# EAGLE library part QM_A35T (library sjg-fpga)
QMTech Artix 35T module with 256MB of DDR3 and all PSU
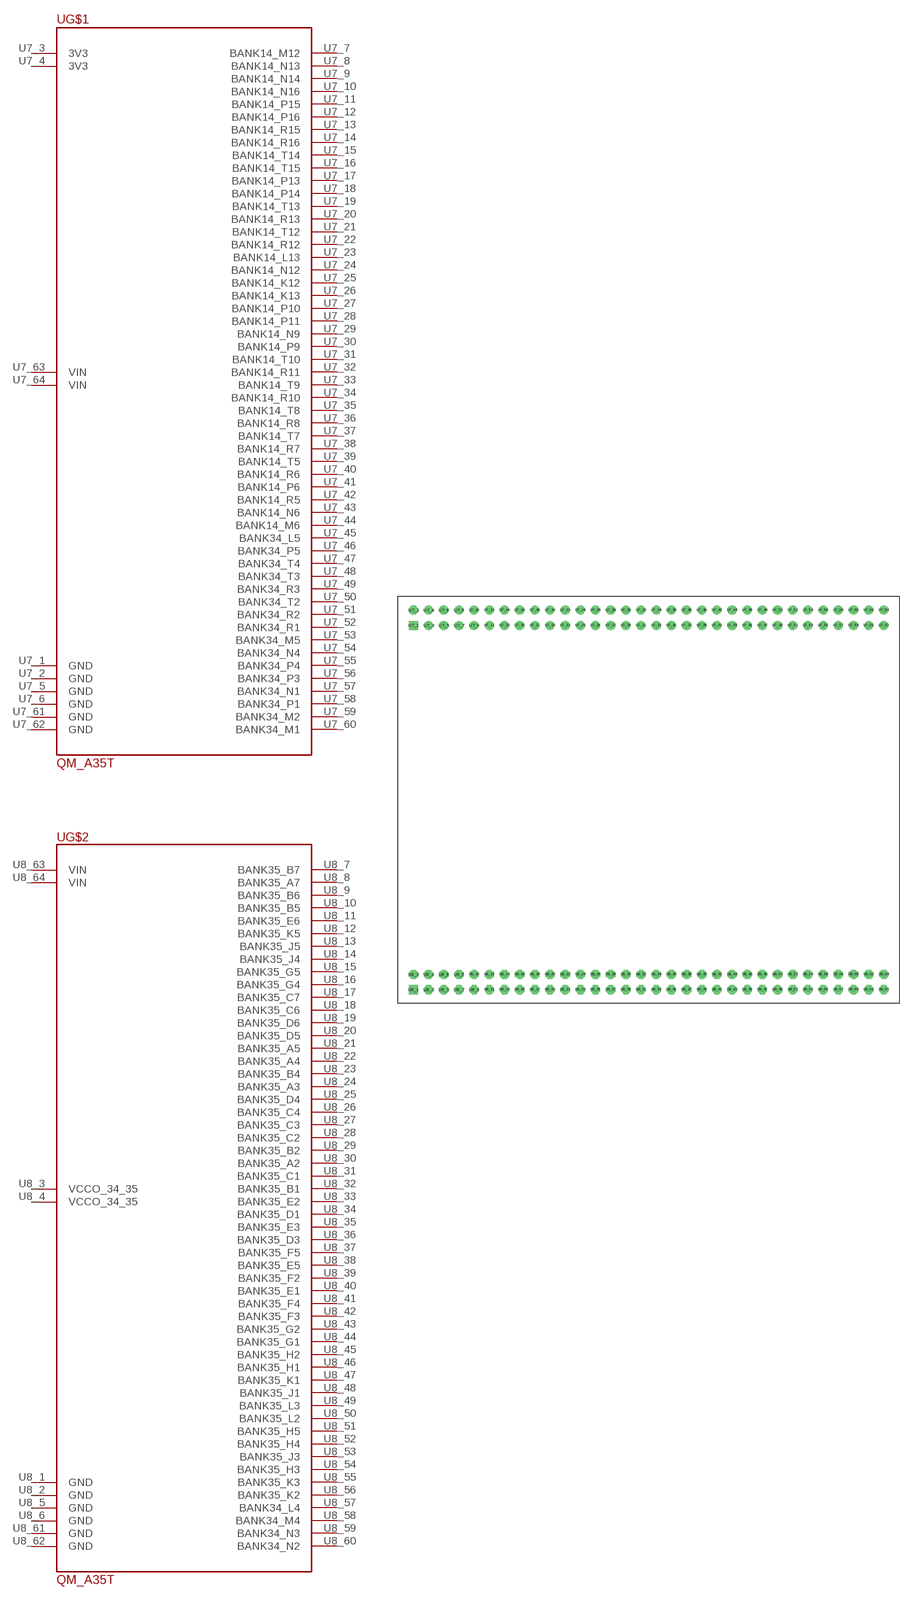
[diagram p0: symbol with the pads of QMTECH; footprint QMTECH]

Designator prefix -; gates G$1=QMTECH_U7 G$2=QMTECH_U9

## QM_A35T  [QMTECH]
U7_1  G$1:GND
U7_2  G$1:GND
U7_3  G$1:3V3
U7_4  G$1:3V3
U7_5  G$1:GND
U7_6  G$1:GND
U7_7  G$1:BANK14_M12
U7_8  G$1:BANK14_N13
U7_9  G$1:BANK14_N14
U7_10  G$1:BANK14_N16
U7_11  G$1:BANK14_P15
U7_12  G$1:BANK14_P16
U7_13  G$1:BANK14_R15
U7_14  G$1:BANK14_R16
U7_15  G$1:BANK14_T14
U7_16  G$1:BANK14_T15
U7_17  G$1:BANK14_P13
U7_18  G$1:BANK14_P14
U7_19  G$1:BANK14_T13
U7_20  G$1:BANK14_R13
U7_21  G$1:BANK14_T12
U7_22  G$1:BANK14_R12
U7_23  G$1:BANK14_L13
U7_24  G$1:BANK14_N12
U7_25  G$1:BANK14_K12
U7_26  G$1:BANK14_K13
U7_27  G$1:BANK14_P10
U7_28  G$1:BANK14_P11
U7_29  G$1:BANK14_N9
U7_30  G$1:BANK14_P9
U7_31  G$1:BANK14_T10
U7_32  G$1:BANK14_R11
U7_33  G$1:BANK14_T9
U7_34  G$1:BANK14_R10
U7_35  G$1:BANK14_T8
U7_36  G$1:BANK14_R8
U7_37  G$1:BANK14_T7
U7_38  G$1:BANK14_R7
U7_39  G$1:BANK14_T5
U7_40  G$1:BANK14_R6
U7_41  G$1:BANK14_P6
U7_42  G$1:BANK14_R5
U7_43  G$1:BANK14_N6
U7_44  G$1:BANK14_M6
U7_45  G$1:BANK34_L5
U7_46  G$1:BANK34_P5
U7_47  G$1:BANK34_T4
U7_48  G$1:BANK34_T3
U7_49  G$1:BANK34_R3
U7_50  G$1:BANK34_T2
U7_51  G$1:BANK34_R2
U7_52  G$1:BANK34_R1
U7_53  G$1:BANK34_M5
U7_54  G$1:BANK34_N4
U7_55  G$1:BANK34_P4
U7_56  G$1:BANK34_P3
U7_57  G$1:BANK34_N1
U7_58  G$1:BANK34_P1
U7_59  G$1:BANK34_M2
U7_60  G$1:BANK34_M1
U7_61  G$1:GND
U7_62  G$1:GND
U7_63  G$1:VIN
U7_64  G$1:VIN
U8_1  G$2:GND
U8_2  G$2:GND
U8_3  G$2:VCCO_34_35
U8_4  G$2:VCCO_34_35
U8_5  G$2:GND
U8_6  G$2:GND
U8_7  G$2:BANK35_B7
U8_8  G$2:BANK35_A7
U8_9  G$2:BANK35_B6
U8_10  G$2:BANK35_B5
U8_11  G$2:BANK35_E6
U8_12  G$2:BANK35_K5
U8_13  G$2:BANK35_J5
U8_14  G$2:BANK35_J4
U8_15  G$2:BANK35_G5
U8_16  G$2:BANK35_G4
U8_17  G$2:BANK35_C7
U8_18  G$2:BANK35_C6
U8_19  G$2:BANK35_D6
U8_20  G$2:BANK35_D5
U8_21  G$2:BANK35_A5
U8_22  G$2:BANK35_A4
U8_23  G$2:BANK35_B4
U8_24  G$2:BANK35_A3
U8_25  G$2:BANK35_D4
U8_26  G$2:BANK35_C4
U8_27  G$2:BANK35_C3
U8_28  G$2:BANK35_C2
U8_29  G$2:BANK35_B2
U8_30  G$2:BANK35_A2
U8_31  G$2:BANK35_C1
U8_32  G$2:BANK35_B1
U8_33  G$2:BANK35_E2
U8_34  G$2:BANK35_D1
U8_35  G$2:BANK35_E3
U8_36  G$2:BANK35_D3
U8_37  G$2:BANK35_F5
U8_38  G$2:BANK35_E5
U8_39  G$2:BANK35_F2
U8_40  G$2:BANK35_E1
U8_41  G$2:BANK35_F4
U8_42  G$2:BANK35_F3
U8_43  G$2:BANK35_G2
U8_44  G$2:BANK35_G1
U8_45  G$2:BANK35_H2
U8_46  G$2:BANK35_H1
U8_47  G$2:BANK35_K1
U8_48  G$2:BANK35_J1
U8_49  G$2:BANK35_L3
U8_50  G$2:BANK35_L2
U8_51  G$2:BANK35_H5
U8_52  G$2:BANK35_H4
U8_53  G$2:BANK35_J3
U8_54  G$2:BANK35_H3
U8_55  G$2:BANK35_K3
U8_56  G$2:BANK35_K2
U8_57  G$2:BANK34_L4
U8_58  G$2:BANK34_M4
U8_59  G$2:BANK34_N3
U8_60  G$2:BANK34_N2
U8_61  G$2:GND
U8_62  G$2:GND
U8_63  G$2:VIN
U8_64  G$2:VIN

## Footprint QMTECH (pad centres in mm)
drill 1.016 square: U7_1 -39.37,29.21; U8_1 -39.37,-31.75
drill 1.016 octagon: U7_2 -39.37,31.75; U8_2 -39.37,-29.21; U8_3 -36.83,-31.75; U8_4 -36.83,-29.21; U8_5 -34.29,-31.75; U8_6 -34.29,-29.21; U8_7 -31.75,-31.75; U8_8 -31.75,-29.21; U8_9 -29.21,-31.75; U8_10 -29.21,-29.21; U8_11 -26.67,-31.75; U8_12 -26.67,-29.21; U8_13 -24.13,-31.75; U8_14 -24.13,-29.21; U8_15 -21.59,-31.75; U8_16 -21.59,-29.21; U8_17 -19.05,-31.75; U8_18 -19.05,-29.21; U8_19 -16.51,-31.75; U8_20 -16.51,-29.21; U8_21 -13.97,-31.75; U8_22 -13.97,-29.21; U8_23 -11.43,-31.75; U8_24 -11.43,-29.21; U8_25 -8.89,-31.75; U8_26 -8.89,-29.21; U8_27 -6.35,-31.75; U8_28 -6.35,-29.21; U8_29 -3.81,-31.75; U8_30 -3.81,-29.21; U8_31 -1.27,-31.75; U8_32 -1.27,-29.21; U8_33 1.27,-31.75; U8_34 1.27,-29.21; U8_35 3.81,-31.75; U8_36 3.81,-29.21; U8_37 6.35,-31.75; U8_38 6.35,-29.21; U8_39 8.89,-31.75; U8_40 8.89,-29.21; U8_41 11.43,-31.75; U8_42 11.43,-29.21; U8_43 13.97,-31.75; U8_44 13.97,-29.21; U8_45 16.51,-31.75; U8_46 16.51,-29.21; U8_47 19.05,-31.75; U8_48 19.05,-29.21; U8_49 21.59,-31.75; U8_50 21.59,-29.21; U8_51 24.13,-31.75; U8_52 24.13,-29.21; U8_53 26.67,-31.75; U8_54 26.67,-29.21; U8_55 29.21,-31.75; U8_56 29.21,-29.21; U8_57 31.75,-31.75; U8_58 31.75,-29.21; U8_59 34.29,-31.75; U8_60 34.29,-29.21; U8_61 36.83,-31.75; U8_62 36.83,-29.21; U8_63 39.37,-31.75; U8_64 39.37,-29.21
drill 1.016: U7_3 -36.83,29.21; U7_4 -36.83,31.75; U7_5 -34.29,29.21; U7_6 -34.29,31.75; U7_7 -31.75,29.21; U7_8 -31.75,31.75; U7_9 -29.21,29.21; U7_10 -29.21,31.75; U7_11 -26.67,29.21; U7_12 -26.67,31.75; U7_13 -24.13,29.21; U7_14 -24.13,31.75; U7_15 -21.59,29.21; U7_16 -21.59,31.75; U7_17 -19.05,29.21; U7_18 -19.05,31.75; U7_19 -16.51,29.21; U7_20 -16.51,31.75; U7_21 -13.97,29.21; U7_22 -13.97,31.75; U7_23 -11.43,29.21; U7_24 -11.43,31.75; U7_25 -8.89,29.21; U7_26 -8.89,31.75; U7_27 -6.35,29.21; U7_28 -6.35,31.75; U7_29 -3.81,29.21; U7_30 -3.81,31.75; U7_31 -1.27,29.21; U7_32 -1.27,31.75; U7_33 1.27,29.21; U7_34 1.27,31.75; U7_35 3.81,29.21; U7_36 3.81,31.75; U7_37 6.35,29.21; U7_38 6.35,31.75; U7_39 8.89,29.21; U7_40 8.89,31.75; U7_41 11.43,29.21; U7_42 11.43,31.75; U7_43 13.97,29.21; U7_44 13.97,31.75; U7_45 16.51,29.21; U7_46 16.51,31.75; U7_47 19.05,29.21; U7_48 19.05,31.75; U7_49 21.59,29.21; U7_50 21.59,31.75; U7_51 24.13,29.21; U7_52 24.13,31.75; U7_53 26.67,29.21; U7_54 26.67,31.75; U7_55 29.21,29.21; U7_56 29.21,31.75; U7_57 31.75,29.21; U7_58 31.75,31.75; U7_59 34.29,29.21; U7_60 34.29,31.75; U7_61 36.83,29.21; U7_62 36.83,31.75; U7_63 39.37,29.21; U7_64 39.37,31.75